# Altium schematic symbol library CA3146.Schlib: 1 symbol
Pins are listed as number, name and electrical type; pins without a type are passive.

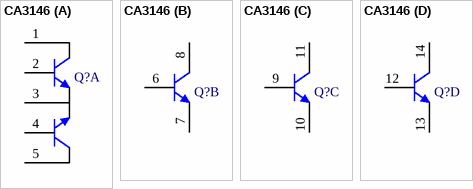
[diagram p0: symbol CA3146]

## CA3146
designator Q?
signal-integrity model Model Name (Model Description)
part A pins: 1 C1A, 2 B1A, 3 E1, 4 B1B, 5 C1B
part B pins: 6 B2, 7 E2, 8 C2
part C pins: 9 B3, 10 E3, 11 C3
part D pins: 12 B4, 13 E4, 14 C4